# Altium footprint library ADS12B3ASARH.PcbLib: 1 footprints
Each footprint in its own frame and in the unit in brackets; x right, y up, seen from the top. Pads: shape width x height; smd on the part's side, far side on the other; paste and mask are expansions set on the pad; w line width, h text height; cw(c..) or ccw(c..) is an arc to the next point about the centre after c.
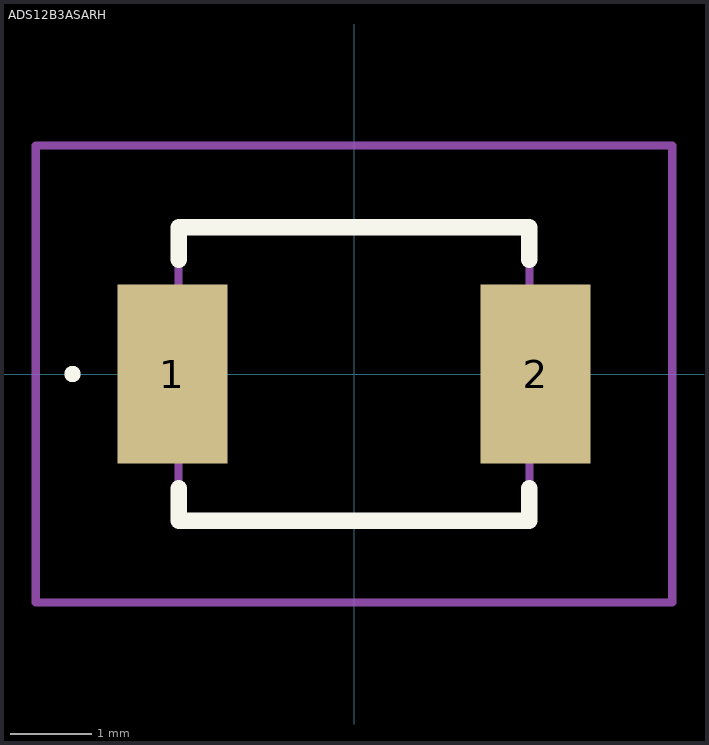
[diagram p0: the footprint, top view; thin cyan lines are the x and y axes]

## ADS12B3ASARH [mm]
pads (2):
  rect 1.35x2.2 smd: 1(-2.225,0) 2(2.225,0)
Top Overlay:
  lines w0.1: -3.5,0 cw(c-3.45,0) -3.4,0 ; -3.5,0 -3.5,0 ; -3.5,0 ccw(c-3.45,0) -3.4,0 ; -3.4,0 -3.4,0
  lines w0.2: -2.15,-1.4 -2.15,-1.8 2.15,-1.8 2.15,-1.4 ; 2.15,1.4 2.15,1.8 -2.15,1.8 -2.15,1.4 ; -2.15,1.4 -2.15,1.4
Mechanical 15:
  lines w0.1: -2.15,-1.8 2.15,-1.8 2.15,1.8 -2.15,1.8 -2.15,-1.8
Mechanical 20:
  lines w0.1: -3.9,-2.8 3.9,-2.8 3.9,2.8 -3.9,2.8 -3.9,-2.8